# Altium integrated library RES 1210.IntLib: 1 symbol
Pins are listed as number, name and electrical type; pins without a type are passive.

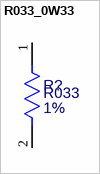
[diagram p0: symbol R033_0W33]

## R033_0W33
designator R?, comment value R033  Tolerance: 1%  (hidden comment: AWT25-500088)
Resistor, 0.033 OHM; Power Rating: 0W33; ECAD_Revision: 1; Librariain: US; PartNumber: AWT25-500088; Item: *; HelpURL: K:\ACCELEDA\PDF Spec Files\Resistor\PAN_ERJ.PDF
footprint R1210
pins: 1, 2